# Altium integrated library ICM7555.IntLib: 1 symbol
Pins are listed as number, name and electrical type; pins without a type are passive.

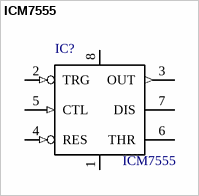
[diagram p0: symbol ICM7555]

## ICM7555
designator IC?
SnapEDA_Link: https://www.snapeda.com/parts/ICM7555/Renesas%20Electronics%20America%20Inc./view-part/571575/?ref=snap; Value: *
footprint *SO-8
pins: 1 GND (power), 2 TRG (in), 3 OUT (out), 4 RES (in), 5 CTL (in), 6 THR, 7 DIS, 8 VCC (power)